# Altium footprint library 530470460.PcbLib: 1 footprints
Each footprint in its own frame and in the unit in brackets; x right, y up, seen from the top. Pads: shape width x height; smd on the part's side, far side on the other; paste and mask are expansions set on the pad; w line width, h text height; cw(c..) or ccw(c..) is an arc to the next point about the centre after c.
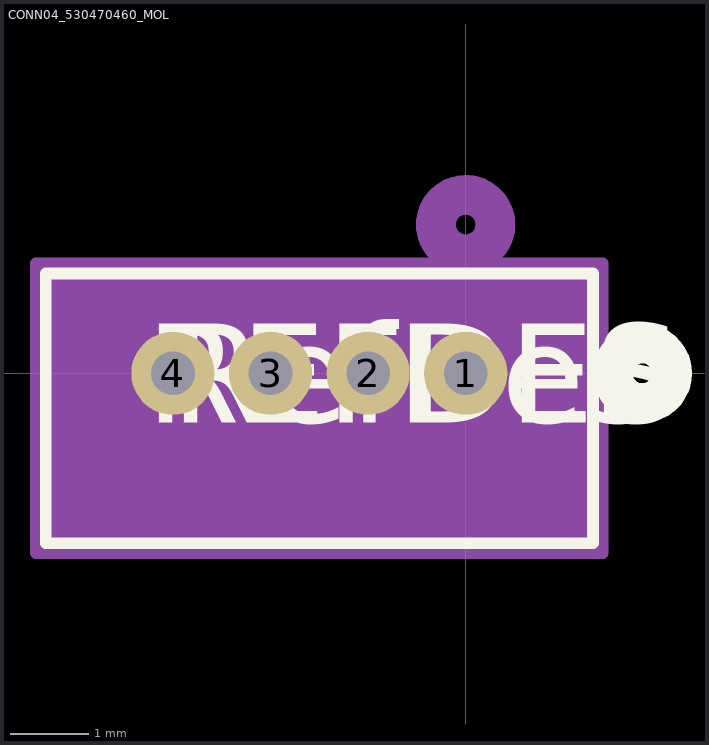
[diagram p0: the footprint, top view; thin cyan lines are the x and y axes]

## CONN04_530470460_MOL [mil]
pads (4):
  round 42 / inner round 60 / far side round 42 hole 22 paste-21 mask+0: 1(0,0) 2(-49.21,0) 3(-98.43,0) 4(-147.64,0)
Top Overlay:
  circle w20: c89.18,0 r15
  lines w6: -211.82,-85.72 64.18,-85.72 64.18,50.28 -211.82,50.28 -211.82,-85.72
  text "RefDes" at -148.82,-25 h50
  text "REFDES" at -161.32,-25 h50
Bottom Overlay:
  circle w20: c89.18,0 r15
Mechanical 13:
  circle w20: c0,75 r15
  lines w1: -206.82,-80.72 59.18,-80.72 59.18,45.28 -206.82,45.28 -206.82,-80.72
  text "RefDes2" at -161.32,-25 h50
Mechanical 15:
  region: 69.18,55.28 -216.82,55.28 -216.82,-90.72 69.18,-90.72
  lines w6: -216.82,-90.72 -216.82,55.28 69.18,55.28 69.18,-90.72 -216.82,-90.72